# Altium schematic symbol library Earphone.SchLib: 36 symbols
Pins are listed as number, name and electrical type; pins without a type are passive.

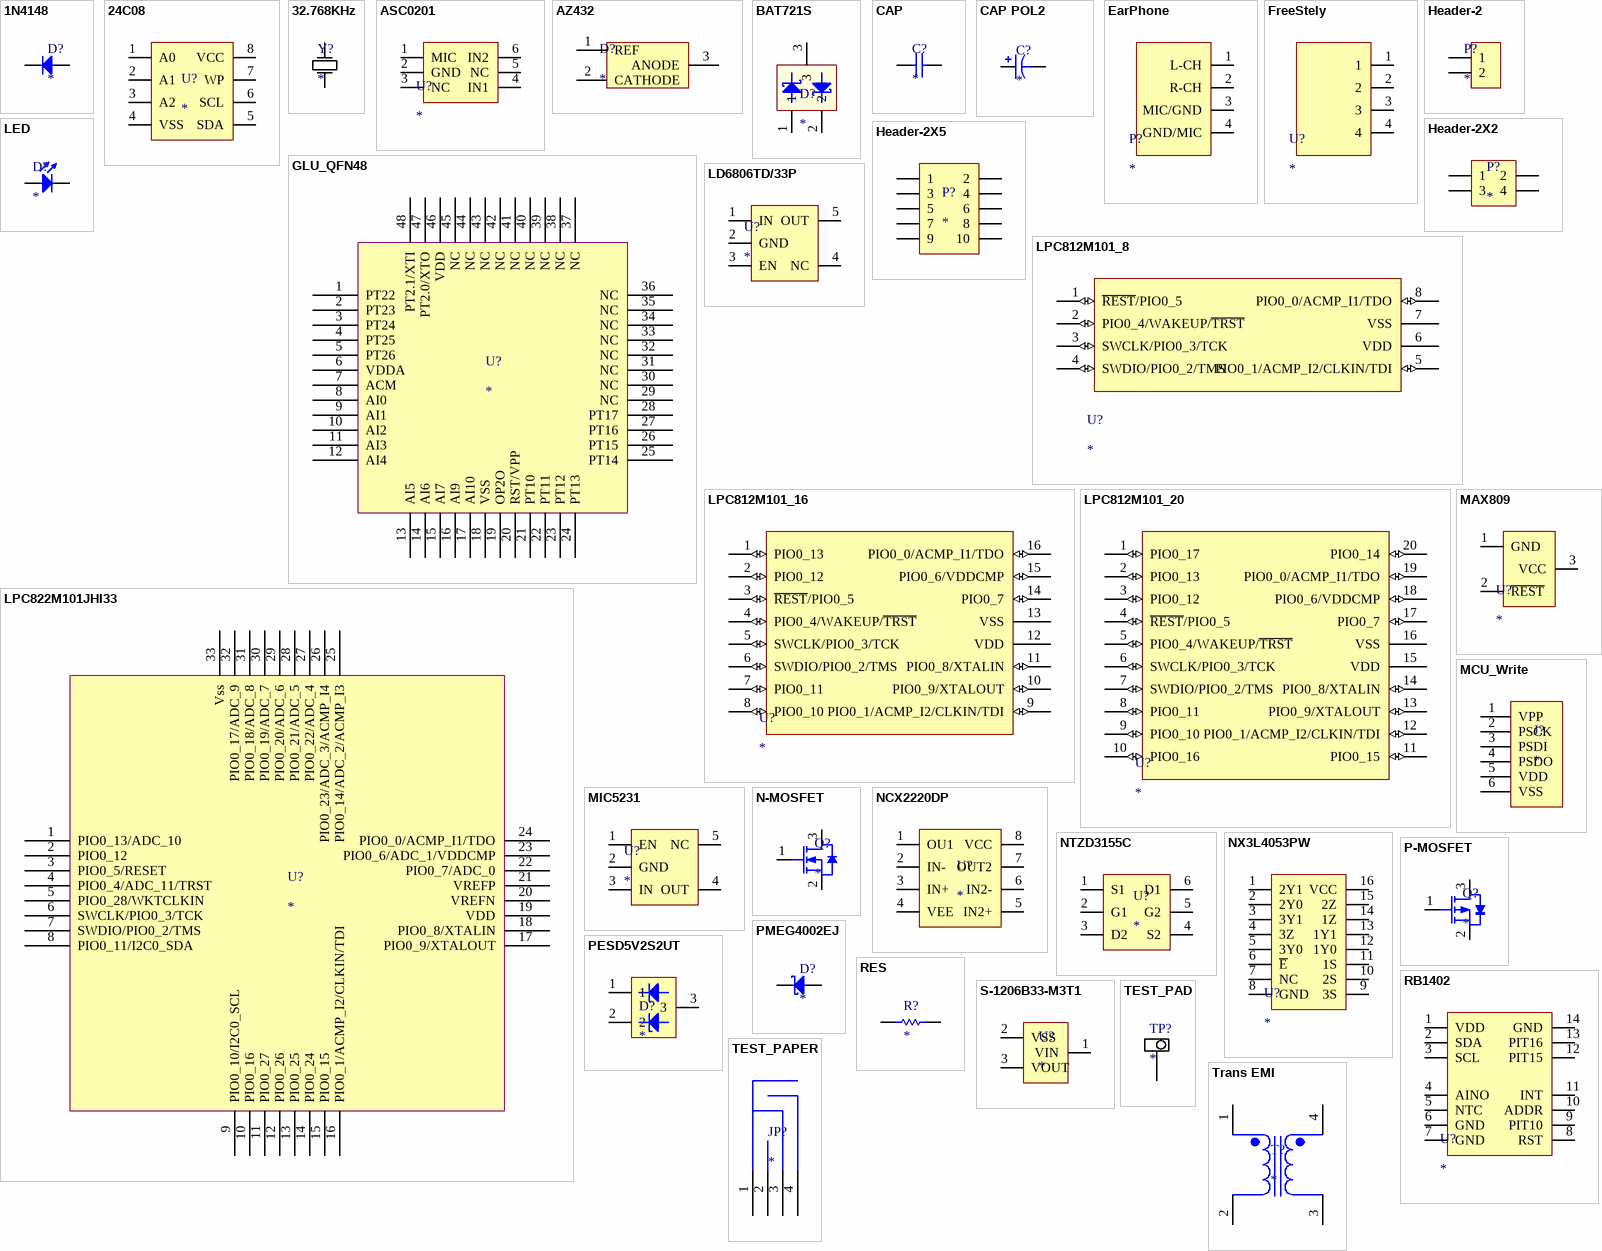
[diagram p0: symbols 1N4148 to Trans EMI]

## 1N4148
designator D?
SOD123
footprint SOD123
pins: 1, 2

## 24C08
designator U?
pins: 1 A0, 2 A1, 3 A2, 4 VSS, 5 SDA, 6 SCL, 7 WP, 8 VCC

## 32.768KHz
designator Y?
pins: 1, 2

## ASC0201
designator U?
SOT23-6
pins: 1 MIC, 2 GND, 3 NC, 4 IN1, 5 NC, 6 IN2

## AZ432
designator D?
pins: 1 REF, 2 CATHODE, 3 ANODE

## BAT721S
designator D?
SOT23
pins: 1, 2, 3

## CAP
designator C?
pins: 1, 2

## CAP POL2
designator C?
pins: 1, 2

## EarPhone
designator P?
pins: 1 L-CH, 2 R-CH, 3 MIC/GND, 4 GND/MIC

## FreeStely
designator U?
pins: 1, 2, 3, 4

## GLU_QFN48
designator U?
pins: 1 PT22, 2 PT23, 3 PT24, 4 PT25, 5 PT26, 6 VDDA, 7 ACM, 8 AI0, 9 AI1, 10 AI2, 11 AI3, 12 AI4, 13 AI5, 14 AI6, 15 AI7, 16 AI9, 17 AI10, 18 VSS, 19 OP2O, 20 RST/VPP, 21 PT10, 22 PT11, 23 PT12, 24 PT13, 25 PT14, 26 PT15, 27 PT16, 28 PT17, 29 NC, 30 NC, 31 NC, 32 NC, 33 NC, 34 NC, 35 NC, 36 NC, 37 NC, 38 NC, 39 NC, 40 NC, 41 NC, 42 NC, 43 NC, 44 NC, 45 NC, 46 VDD, 47 PT2.0/XTO, 48 PT2.1/XTI

## Header-2
designator P?
pins: 1, 2

## Header-2X2
designator P?
pins: 1, 2, 3, 4

## Header-2X5
designator P?
pins: 1, 2, 3, 4, 5, 6, 7, 8, 9, 10

## LD6806TD/33P
designator U?
TSOP5(SOT753)
pins: 1 IN, 2 GND, 3 EN, 4 NC, 5 OUT

## LED
designator D?
pins: 1 A, 2 K

## LPC812M101_8
designator U?
DIP8
pins: 1 ~{REST}/PIO0_5 (io), 2 PIO0_4/WAKEUP/~{TRST} (io), 3 SWCLK/PIO0_3/TCK (io), 4 SWDIO/PIO0_2/TMS (io), 5 PIO0_1/ACMP_I2/CLKIN/TDI (io), 6 VDD, 7 VSS, 8 PIO0_0/ACMP_I1/TDO (io)

## LPC812M101_16
designator U?
TSSOP16
pins: 1 PIO0_13 (io), 2 PIO0_12 (io), 3 ~{REST}/PIO0_5 (io), 4 PIO0_4/WAKEUP/~{TRST} (io), 5 SWCLK/PIO0_3/TCK (io), 6 SWDIO/PIO0_2/TMS (io), 7 PIO0_11 (io), 8 PIO0_10 (io), 9 PIO0_1/ACMP_I2/CLKIN/TDI (io), 10 PIO0_9/XTALOUT (io), 11 PIO0_8/XTALIN (io), 12 VDD, 13 VSS, 14 PIO0_7 (io), 15 PIO0_6/VDDCMP (io), 16 PIO0_0/ACMP_I1/TDO (io)

## LPC812M101_20
designator U?
TSSOP20
pins: 1 PIO0_17 (io), 2 PIO0_13 (io), 3 PIO0_12 (io), 4 ~{REST}/PIO0_5 (io), 5 PIO0_4/WAKEUP/~{TRST} (io), 6 SWCLK/PIO0_3/TCK (io), 7 SWDIO/PIO0_2/TMS (io), 8 PIO0_11 (io), 9 PIO0_10 (io), 10 PIO0_16 (io), 11 PIO0_15 (io), 12 PIO0_1/ACMP_I2/CLKIN/TDI (io), 13 PIO0_9/XTALOUT (io), 14 PIO0_8/XTALIN (io), 15 VDD, 16 VSS, 17 PIO0_7 (io), 18 PIO0_6/VDDCMP (io), 19 PIO0_0/ACMP_I1/TDO (io), 20 PIO0_14 (io)

## LPC822M101JHI33
designator U?
pins: 1 PIO0_13/ADC_10, 2 PIO0_12, 3 PIO0_5/RESET, 4 PIO0_4/ADC_11/TRST, 5 PIO0_28/WKTCLKIN, 6 SWCLK/PIO0_3/TCK, 7 SWDIO/PIO0_2/TMS, 8 PIO0_11/I2C0_SDA  , 9 PIO0_10/I2C0_SCL, 10 PIO0_16, 11 PIO0_27, 12 PIO0_26, 13 PIO0_25, 14 PIO0_24, 15 PIO0_15, 16 PIO0_1/ACMP_I2/CLKIN/TDI, 17 PIO0_9/XTALOUT, 18 PIO0_8/XTALIN, 19 VDD, 20 VREFN, 21 VREFP, 22 PIO0_7/ADC_0, 23 PIO0_6/ADC_1/VDDCMP, 24 PIO0_0/ACMP_I1/TDO, 25 PIO0_14/ADC_2/ACMP_I3, 26 PIO0_23/ADC_3/ACMP_I4, 27 PIO0_22/ADC_4, 28 PIO0_21/ADC_5, 29 PIO0_20/ADC_6, 30 PIO0_19/ADC_7, 31 PIO0_18/ADC_8, 32 PIO0_17/ADC_9, 33 Vss

## MAX809
designator U?
SOT23
pins: 1 GND, 2 ~{REST}, 3 VCC

## MCU_Write
designator J?
pins: 1 VPP, 2 PSCK, 3 PSDI, 4 PSDO, 5 VDD, 6 VSS

## MIC5231
designator U?
pins: 1 EN, 2 GND, 3 IN, 4 OUT, 5 NC

## N-MOSFET
designator Q?
4N80 N-Channel MOSFET
pins: 1 G, 2 S, 3 D

## NCX2220DP
designator U?
TSSOP8(SOT505-2)
pins: 1 OU1, 2 IN-, 3 IN+, 4 VEE, 5 IN2+, 6 IN2-, 7 OUT2, 8 VCC

## NTZD3155C
designator U?
pins: 1 S1, 2 G1, 3 D2, 4 S2, 5 G2, 6 D1

## NX3L4053PW
designator U?
TSSOP16(SOT403-1)
pins: 1 2Y1, 2 2Y0, 3 3Y1, 4 3Z, 5 3Y0, 6 ~{E}, 7 NC, 8 GND, 9 3S, 10 2S, 11 1S, 12 1Y0, 13 1Y1, 14 1Z, 15 2Z, 16 VCC

## P-MOSFET
designator Q?
P-Channel MOSFET
pins: 1 G, 2 S, 3 D

## PESD5V2S2UT
designator D?
SOT23
pins: 1, 2, 3

## PMEG4002EJ
designator D?
SOD323F
pins: 1, 2

## RB1402
designator U?
pins: 1 VDD, 2 SDA, 3 SCL, 4 AINO, 5 NTC, 6 GND, 7 GND, 8 RST, 9 PIT10, 10 ADDR, 11 INT, 12 PIT15, 13 PIT16, 14 GND

## RES
designator R?
pins: 1, 2

## S-1206B33-M3T1
designator U?
pins: 1 VIN, 2 VSS, 3 VOUT

## TEST_PAD
designator TP?
pins: 1

## TEST_PAPER
designator JP?
pins: 1 N, 2 PC10, 3 NOP, 4 P

## Trans EMI
designator T?
pins: 1, 2, 3, 4